# EAGLE library part PCF8883 (library nxt)
Capacitive proximity switch with auto-calibration, large voltage operating range and very low power consumption
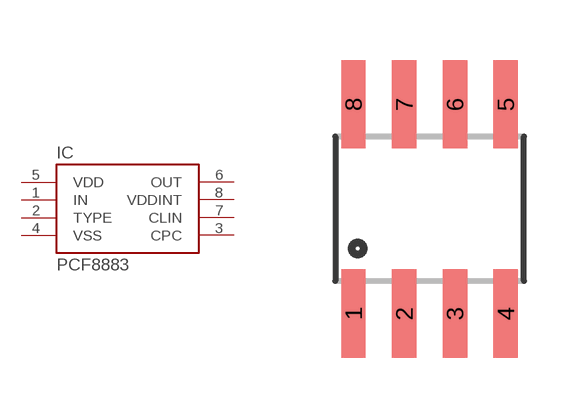
[diagram p0: symbol with the pads of SO08; footprint SO08]

Designator prefix IC

## PCF8883  [SO08]
1  IN
2  TYPE  in
3  CPC
4  VSS  pwr
5  VDD  pwr
6  OUT  out
7  CLIN
8  VDDINT  out

## Footprint SO08 (pad centres in mm)
Small Outline Package Fits JEDEC packages (narrow SOIC-8)
smd 0.61 x 2.21: 1 -1.905,-2.616; 2 -0.635,-2.616; 3 0.635,-2.616; 4 1.905,-2.616; 5 1.905,2.616; 6 0.635,2.616; 7 -0.635,2.616; 8 -1.905,2.616